# Altium footprint library Papilio_DUO.PcbLib: 39 footprints (part 3 of 3)
Each footprint in its own frame and in the unit in brackets; x right, y up, seen from the top. Pads: shape width x height; smd on the part's side, far side on the other; paste and mask are expansions set on the pad; w line width, h text height; cw(c..) or ccw(c..) is an arc to the next point about the centre after c.
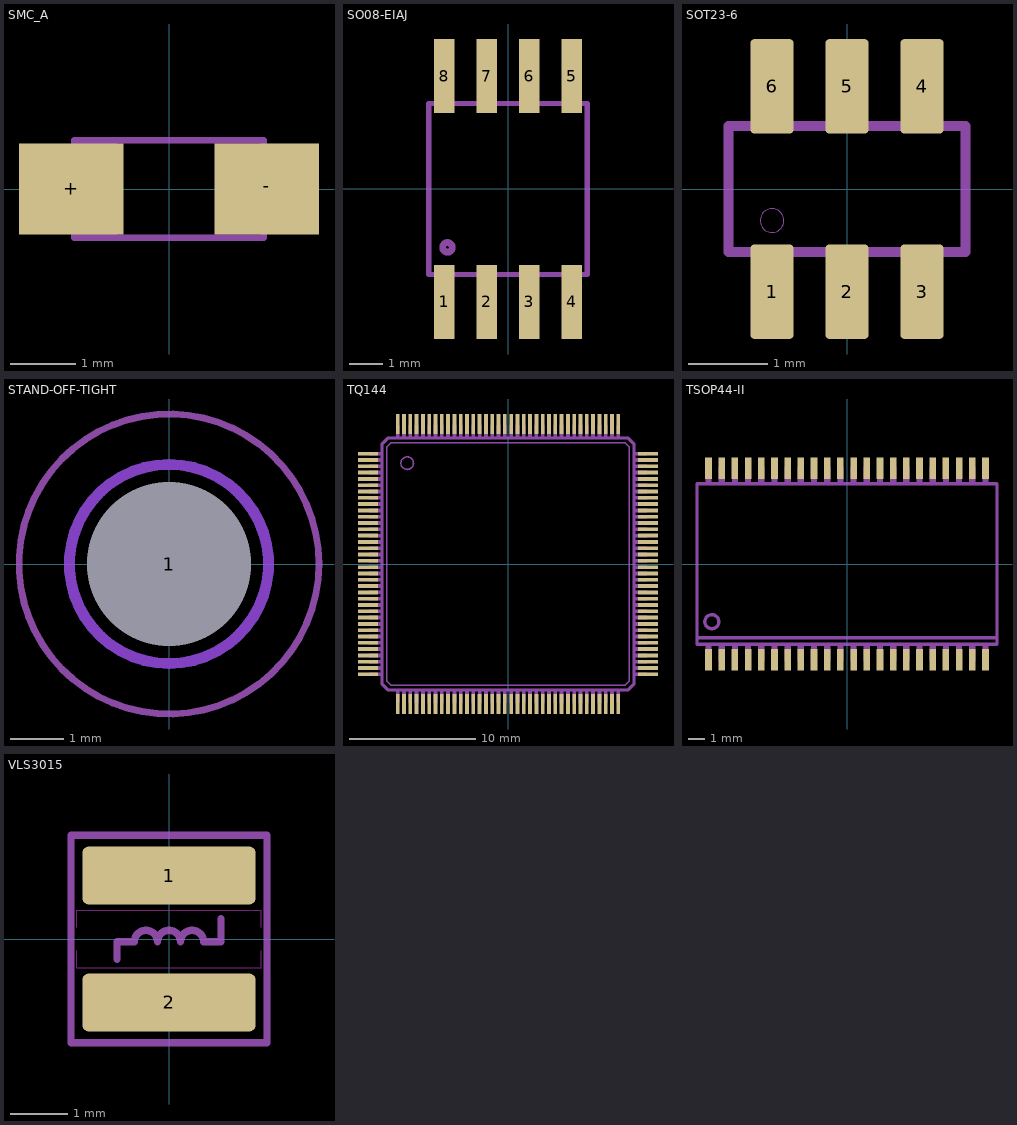
[diagram p2: the footprints below, top view; thin cyan lines are the x and y axes]

## SMC_A [mm]
pads (2):
  rect 1.6x1.4 smd: +(-1.5,0) -(1.5,0)
Mechanical 8:
  region: -1.6,-0.6 -1.6,0.6 -1.4,0.6 -1.4,-0.6
  region: 1.6,0.6 1.6,-0.6 1.4,-0.6 1.4,0.6
  region: -1.45,-0.75 -1.45,0.75 -0.8,0.75 -0.8,-0.75
  lines w0.102: -1.45,-0.75 1.45,-0.75 1.45,0.75 -1.45,0.75 -1.45,-0.75

## SO08-EIAJ [mil]
pads (8):
  rect 24x87 smd: 1(-75,-133) 2(-25,-133) 3(25,-133) 4(75,-133) 5(75,132) 6(25,132) 7(-25,132) 8(-75,132)
Mechanical 2:
  circle w8: c-71,-69 r5.65
  lines w6: -92.99,-100.98 -92.99,99.98 ; 92.99,-100.98 92.99,99.98
Mechanical 8:
  region: 68,102 68,142 82,142 82,102
  region: 18,102 18,142 32,142 32,102
  region: -32,102 -32,142 -18,142 -18,102
  region: -82,102 -82,142 -68,142 -68,102
  region: 68,-143 68,-103 82,-103 82,-143
  region: 18,-143 18,-103 32,-103 32,-143
  region: -32,-143 -32,-103 -18,-103 -18,-143
  region: -82,-143 -82,-103 -68,-103 -68,-143
  lines w6: -92.99,-100.98 92.99,-100.98 ; -92.99,99.98 92.99,99.98

## SOT23-6 [mm]
pads (6):
  rrect20% 0.55x1.2 smd: 1(-0.95,-1.3) 2(0,-1.3) 3(0.95,-1.3) 4(0.95,1.3) 5(0,1.3) 6(-0.95,1.3)
Mechanical 2:
  circle w0: c-0.95,-0.4 r0.15
  lines w0.127: -1.4,-0.8 -1.5,-0.8 -1.5,0.8 -1.4,0.8 ; -0.5,-0.8 -0.45,-0.8 ; -0.5,0.8 -0.45,0.8 ; 0.45,-0.8 0.5,-0.8 ; 0.45,0.8 0.5,0.8 ; 1.4,-0.8 1.5,-0.8 1.5,0.8 1.4,0.8
Mechanical 8:
  region: -1.2,-1.5 -1.2,-0.85 -0.7,-0.85 -0.7,-1.5
  region: -0.25,-1.5 -0.25,-0.85 0.25,-0.85 0.25,-1.5
  region: 0.7,-1.5 0.7,-0.85 1.2,-0.85 1.2,-1.5
  region: 0.7,0.85 0.7,1.5 1.2,1.5 1.2,0.85
  region: -0.25,0.85 -0.25,1.5 0.25,1.5 0.25,0.85
  region: -1.2,0.85 -1.2,1.5 -0.7,1.5 -0.7,0.85
  lines w0.127: -1.5,-0.8 1.5,-0.8 1.5,0.8 -1.5,0.8 -1.5,-0.8

## STAND-OFF-TIGHT [mil]
pads (1):
  round 120 hole 120: 1(0,0)
Top Layer keep-out:
  lines w8: 0,-73 cw(c0,0) 0,73 cw(c0,0) 0,-73
Bottom Layer keep-out:
  lines w8: 0,-73 cw(c0,0) 0,73 cw(c0,0) 0,-73
Mechanical 16:
  circle w5: c0,0 r110

## TQ144 [mm]
pads (144):
  rect 1.6x0.3 smd: 1(-11.1,8.75) 2(-11.1,8.25) 3(-11.1,7.75) 4(-11.1,7.25) 5(-11.1,6.75) 6(-11.1,6.25) 7(-11.1,5.75) 8(-11.1,5.25) 9(-11.1,4.75) 10(-11.1,4.25) 11(-11.1,3.75) 12(-11.1,3.25) 13(-11.1,2.75) 14(-11.1,2.25) 15(-11.1,1.75) 16(-11.1,1.25) 17(-11.1,0.75) 18(-11.1,0.25) 19(-11.1,-0.25) 20(-11.1,-0.75) 21(-11.1,-1.25) 22(-11.1,-1.75) 23(-11.1,-2.25) 24(-11.1,-2.75) 25(-11.1,-3.25) 26(-11.1,-3.75) 27(-11.1,-4.25) 28(-11.1,-4.75) 29(-11.1,-5.25) 30(-11.1,-5.75) 31(-11.1,-6.25) 32(-11.1,-6.75) 33(-11.1,-7.25) 34(-11.1,-7.75) 35(-11.1,-8.25) 36(-11.1,-8.75) 73(11.1,-8.75) 74(11.1,-8.25) 75(11.1,-7.75) 76(11.1,-7.25) 77(11.1,-6.75) 78(11.1,-6.25) 79(11.1,-5.75) 80(11.1,-5.25) 81(11.1,-4.75) 82(11.1,-4.25) 83(11.1,-3.75) 84(11.1,-3.25) 85(11.1,-2.75) 86(11.1,-2.25) 87(11.1,-1.75) 88(11.1,-1.25) 89(11.1,-0.75) 90(11.1,-0.25) 91(11.1,0.25) 92(11.1,0.75) 93(11.1,1.25) 94(11.1,1.75) 95(11.1,2.25) 96(11.1,2.75) 97(11.1,3.25) 98(11.1,3.75) 99(11.1,4.25) 100(11.1,4.75) 101(11.1,5.25) 102(11.1,5.75) 103(11.1,6.25) 104(11.1,6.75) 105(11.1,7.25) 106(11.1,7.75) 107(11.1,8.25) 108(11.1,8.75)
  rect 0.3x1.6 smd: 37(-8.75,-11.1) 38(-8.25,-11.1) 39(-7.75,-11.1) 40(-7.25,-11.1) 41(-6.75,-11.1) 42(-6.25,-11.1) 43(-5.75,-11.1) 44(-5.25,-11.1) 45(-4.75,-11.1) 46(-4.25,-11.1) 47(-3.75,-11.1) 48(-3.25,-11.1) 49(-2.75,-11.1) 50(-2.25,-11.1) 51(-1.75,-11.1) 52(-1.25,-11.1) 53(-0.75,-11.1) 54(-0.25,-11.1) 55(0.25,-11.1) 56(0.75,-11.1) 57(1.25,-11.1) 58(1.75,-11.1) 59(2.25,-11.1) 60(2.75,-11.1) 61(3.25,-11.1) 62(3.75,-11.1) 63(4.25,-11.1) 64(4.75,-11.1) 65(5.25,-11.1) 66(5.75,-11.1) 67(6.25,-11.1) 68(6.75,-11.1) 69(7.25,-11.1) 70(7.75,-11.1) 71(8.25,-11.1) 72(8.75,-11.1) 109(8.75,11.1) 110(8.25,11.1) 111(7.75,11.1) 112(7.25,11.1) 113(6.75,11.1) 114(6.25,11.1) 115(5.75,11.1) 116(5.25,11.1) 117(4.75,11.1) 118(4.25,11.1) 119(3.75,11.1) 120(3.25,11.1) 121(2.75,11.1) 122(2.25,11.1) 123(1.75,11.1) 124(1.25,11.1) 125(0.75,11.1) 126(0.25,11.1) 127(-0.25,11.1) 128(-0.75,11.1) 129(-1.25,11.1) 130(-1.75,11.1) 131(-2.25,11.1) 132(-2.75,11.1) 133(-3.25,11.1) 134(-3.75,11.1) 135(-4.25,11.1) 136(-4.75,11.1) 137(-5.25,11.1) 138(-5.75,11.1) 139(-6.25,11.1) 140(-6.75,11.1) 141(-7.25,11.1) 142(-7.75,11.1) 143(-8.25,11.1) 144(-8.75,11.1)
Mechanical 2:
  circle w0.127: c-8,8 r0.5
  lines w0.254: -10,-9.5 -10,9.5 -9.5,10 9.5,10 10,9.5 10,-9.5 9.5,-10 -9.5,-10 -10,-9.5
Mechanical 8:
  drawing of 152 lines, arcs and shapes, not listed

## TSOP44-II [mm]
pads (44):
  rect 0.4x1.3 smd: 1(-8.4,-5.8) 2(-7.6,-5.8) 3(-6.8,-5.8) 4(-6,-5.8) 5(-5.2,-5.8) 6(-4.4,-5.8) 7(-3.6,-5.8) 8(-2.8,-5.8) 9(-2,-5.8) 10(-1.2,-5.8) 11(-0.4,-5.8) 12(0.4,-5.8) 13(1.2,-5.8) 14(2,-5.8) 15(2.8,-5.8) 16(3.6,-5.8) 17(4.4,-5.8) 18(5.2,-5.8) 19(6,-5.8) 20(6.8,-5.8) 21(7.6,-5.8) 22(8.4,-5.8) 23(8.4,5.8) 24(7.6,5.8) 25(6.8,5.8) 26(6,5.8) 27(5.2,5.8) 28(4.4,5.8) 29(3.6,5.8) 30(2.8,5.8) 31(2,5.8) 32(1.2,5.8) 33(0.4,5.8) 34(-0.4,5.8) 35(-1.2,5.8) 36(-2,5.8) 37(-2.8,5.8) 38(-3.6,5.8) 39(-4.4,5.8) 40(-5.2,5.8) 41(-6,5.8) 42(-6.8,5.8) 43(-7.6,5.8) 44(-8.4,5.8)
Mechanical 2:
  circle w0.203: c-8.2,-3.5 r0.425
  lines w0.203: -9.1,-4.475 -9.1,4.875 9.1,4.875 9.1,-4.475 ; -9.1,-4.475 -9.1,-4.875 9.1,-4.875 9.1,-4.475 ; -9.1,-4.475 9.1,-4.475
Mechanical 8:
  drawing of 44 lines, arcs and shapes, not listed

## VLS3015 [mm]
pads (2):
  rrect20% 3x1 smd: 1(0,1.1) 2(0,-1.1)
Top Layer keep-out:
  lines w0: -1.6,-0.2 -1.6,-0.5 1.6,-0.5 1.6,-0.2 ; -1.6,0.2 -1.6,0.5 1.6,0.5 1.6,0.2
Mechanical 2:
  lines w0.127: -0.9,-0.35 -0.9,-0.05 -0.6,-0.05 cw(c-0.4,-0.05) -0.2,-0.05 cw(c0,-0.05) 0.2,-0.05 cw(c0.4,-0.05) 0.6,-0.05 0.9,-0.05 0.9,0.35 ; -1.7,-1.8 -1.7,1.8 1.7,1.8 1.7,-1.8 -1.7,-1.8